# Altium schematic symbol library EdgeConnector.SchLib: 8 symbols
Pins are listed as number, name and electrical type; pins without a type are passive.

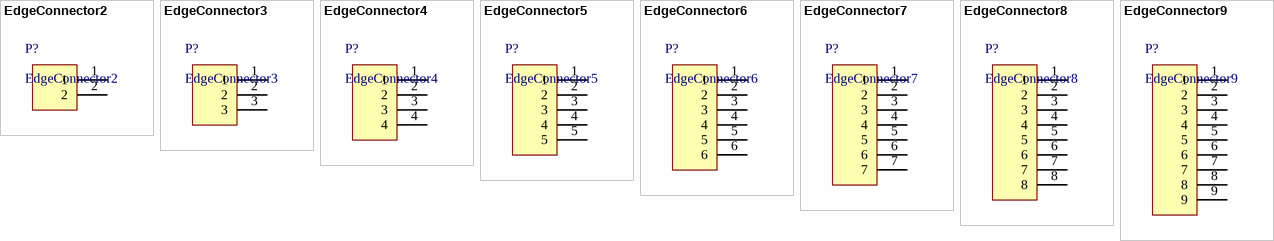
[diagram p0: symbols EdgeConnector2 to EdgeConnector9]

## EdgeConnector2
designator P?
EdgeConnector
footprint EdgeConn2
pins: 1, 2

## EdgeConnector3
designator P?
EdgeConnector
footprint EdgeConn3
pins: 1, 2, 3

## EdgeConnector4
designator P?
EdgeConnector
footprint EdgeConn4
pins: 1, 2, 3, 4

## EdgeConnector5
designator P?
EdgeConnector
footprint EdgeConn5
pins: 1, 2, 3, 4, 5

## EdgeConnector6
designator P?
EdgeConnector
footprint EdgeConn6
pins: 1, 2, 3, 4, 5, 6

## EdgeConnector7
designator P?
EdgeConnector
footprint EdgeConn7
pins: 1, 2, 3, 4, 5, 6, 7

## EdgeConnector8
designator P?
EdgeConnector
footprint EdgeConn8
pins: 1, 2, 3, 4, 5, 6, 7, 8

## EdgeConnector9
designator P?
EdgeConnector
footprint EdgeConn9
pins: 1, 2, 3, 4, 5, 6, 7, 8, 9